# Altium integrated library IR Discrete MOSFET - Power.IntLib: 893 symbols (part 14 of 14)
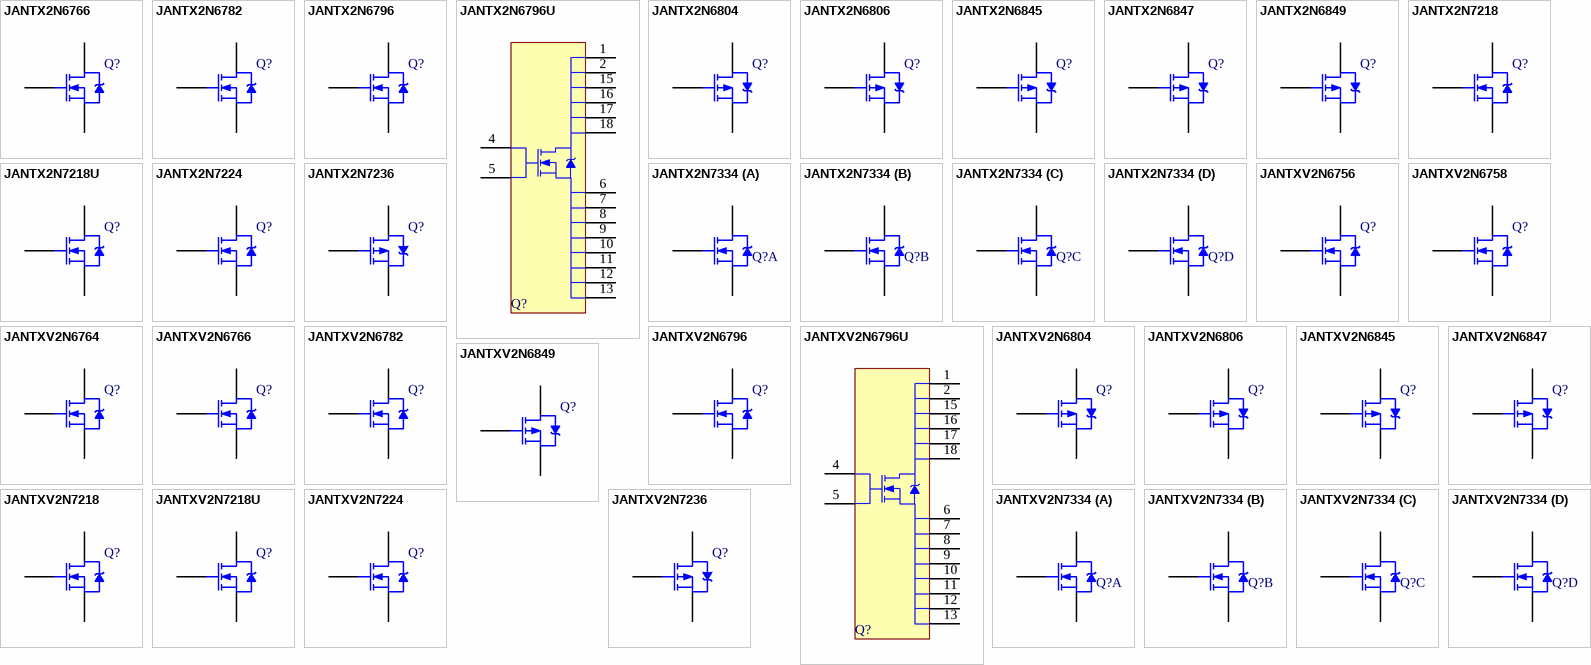
[diagram p36: symbols JANTX2N6766 to JANTXV2N7334]

## JANTXV2N7218U
designator Q?
HEXFET Power MOSFET; Published: 17-Sep-2003; DatasheetVersion: 28-Jan-2002; PackageVersion: 10-Jul-2001; PackageReference: SMD-1; Publisher: Altium Limited; PackageDescription: SM; 3 Leadless Terminals; Body 16 x 11.55 x 3.58 mm (LxWxH); ComponentLink1Description: Manufacturer Link; ComponentLink1URL: http://www.irf.com/; ComponentLink2Description: Datasheet; ComponentLink2URL: http://www.irf.com/product-info/datasheets/data/IRFN140.pdf
footprint SMD-1 (SM; 3 Leadless Terminals; Body 16 x 11.55 x 3.58 mm (LxWxH))
pins: 1 D, 2 G, 3 S

## JANTXV2N7224
designator Q?
HEXFET Power MOSFET; Published: 17-Sep-2003; DatasheetVersion: PD-9.487C; PackageReference: TO-254AA; Publisher: Altium Limited; PackageDescription: TO, Thru-Hole, Vertical, Heatsink Mounted; 3 In-Line Leads; Pitch 3.81 mm; Code_JEDEC: TO-254-AA; ComponentLink1Description: Manufacturer Link; ComponentLink1URL: http://www.irf.com/
footprint TO-254AA (TO, Thru-Hole, Vertical, Heatsink Mounted; 3 In-Line Leads; Pitch 3.81 mm)
pins: 1 D, 2 S, 3 G

## JANTXV2N7236
designator Q?
HEXFET Power MOSFET; Published: 17-Sep-2003; DatasheetVersion: 5-Feb-2002; PackageReference: TO-254AA; Publisher: Altium Limited; PackageDescription: TO, Thru-Hole, Vertical, Heatsink Mounted; 3 In-Line Leads; Pitch 3.81 mm; Code_JEDEC: TO-254-AA; ComponentLink1Description: Manufacturer Link; ComponentLink1URL: http://www.irf.com/; ComponentLink2Description: Datasheet; ComponentLink2URL: http://www.irf.com/product-info/datasheets/data/IRFM9140.pdf
footprint TO-254AA (TO, Thru-Hole, Vertical, Heatsink Mounted; 3 In-Line Leads; Pitch 3.81 mm)
pins: 1 D, 2 S, 3 G

## JANTXV2N7334
designator Q?
HEXFET Power MOSFET; Note: Pins 4, 11 are NC pins and are not drawn.; Published: 17-Sep-2003; LatestRevisionDate: 04-Mar-2005; LatestRevisionNote: Stylized 3D Model Added.; DatasheetVersion: 16-Apr-2002; PackageVersion: Jul-2001; PackageReference: MO-036AB; Publisher: Altium Limited; PackageDescription: DIP; 14 Leads; Row Spacing 7.62 mm; Pitch 2.54 mm; Code_JEDEC: MO-036AB; ComponentLink1Description: Manufacturer Link; ComponentLink1URL: http://www.irf.com/; ComponentLink2Description: Datasheet; ComponentLink2URL: http://www.irf.com/product-info/datasheets/data/IRFPS43N50K.pdf
footprint MO-036AB (DIP; 14 Leads; Row Spacing 7.62 mm; Pitch 2.54 mm)
3D model MO-036AB (DIP; 14 Leads; Row Spacing 7.62 mm; Pitch 2.54 mm)
part A pins: 1 D, 2 S, 3 G
part B pins: 5 G, 6 S, 7 D
part C pins: 8 D, 9 S, 10 G
part D pins: 12 G, 13 S, 14 D